# Altium schematic symbol library AMPHENOL_UE27-ACX4-X0X.SchLib: 1 symbol
Pins are listed as number, name and electrical type; pins without a type are passive.

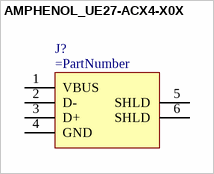
[diagram p0: symbol AMPHENOL_UE27-ACX4-X0X]

## AMPHENOL_UE27-ACX4-X0X
designator J?
pins: 1 VBUS, 2 D-, 3 D+, 4 GND, 5 SHLD, 6 SHLD